# Altium footprint library Common-Parts-Library.PcbLib: 530 footprints (part 33 of 34)
Each footprint in its own frame and in the unit in brackets; x right, y up, seen from the top. Pads: shape width x height; smd on the part's side, far side on the other; paste and mask are expansions set on the pad; w line width, h text height; cw(c..) or ccw(c..) is an arc to the next point about the centre after c.
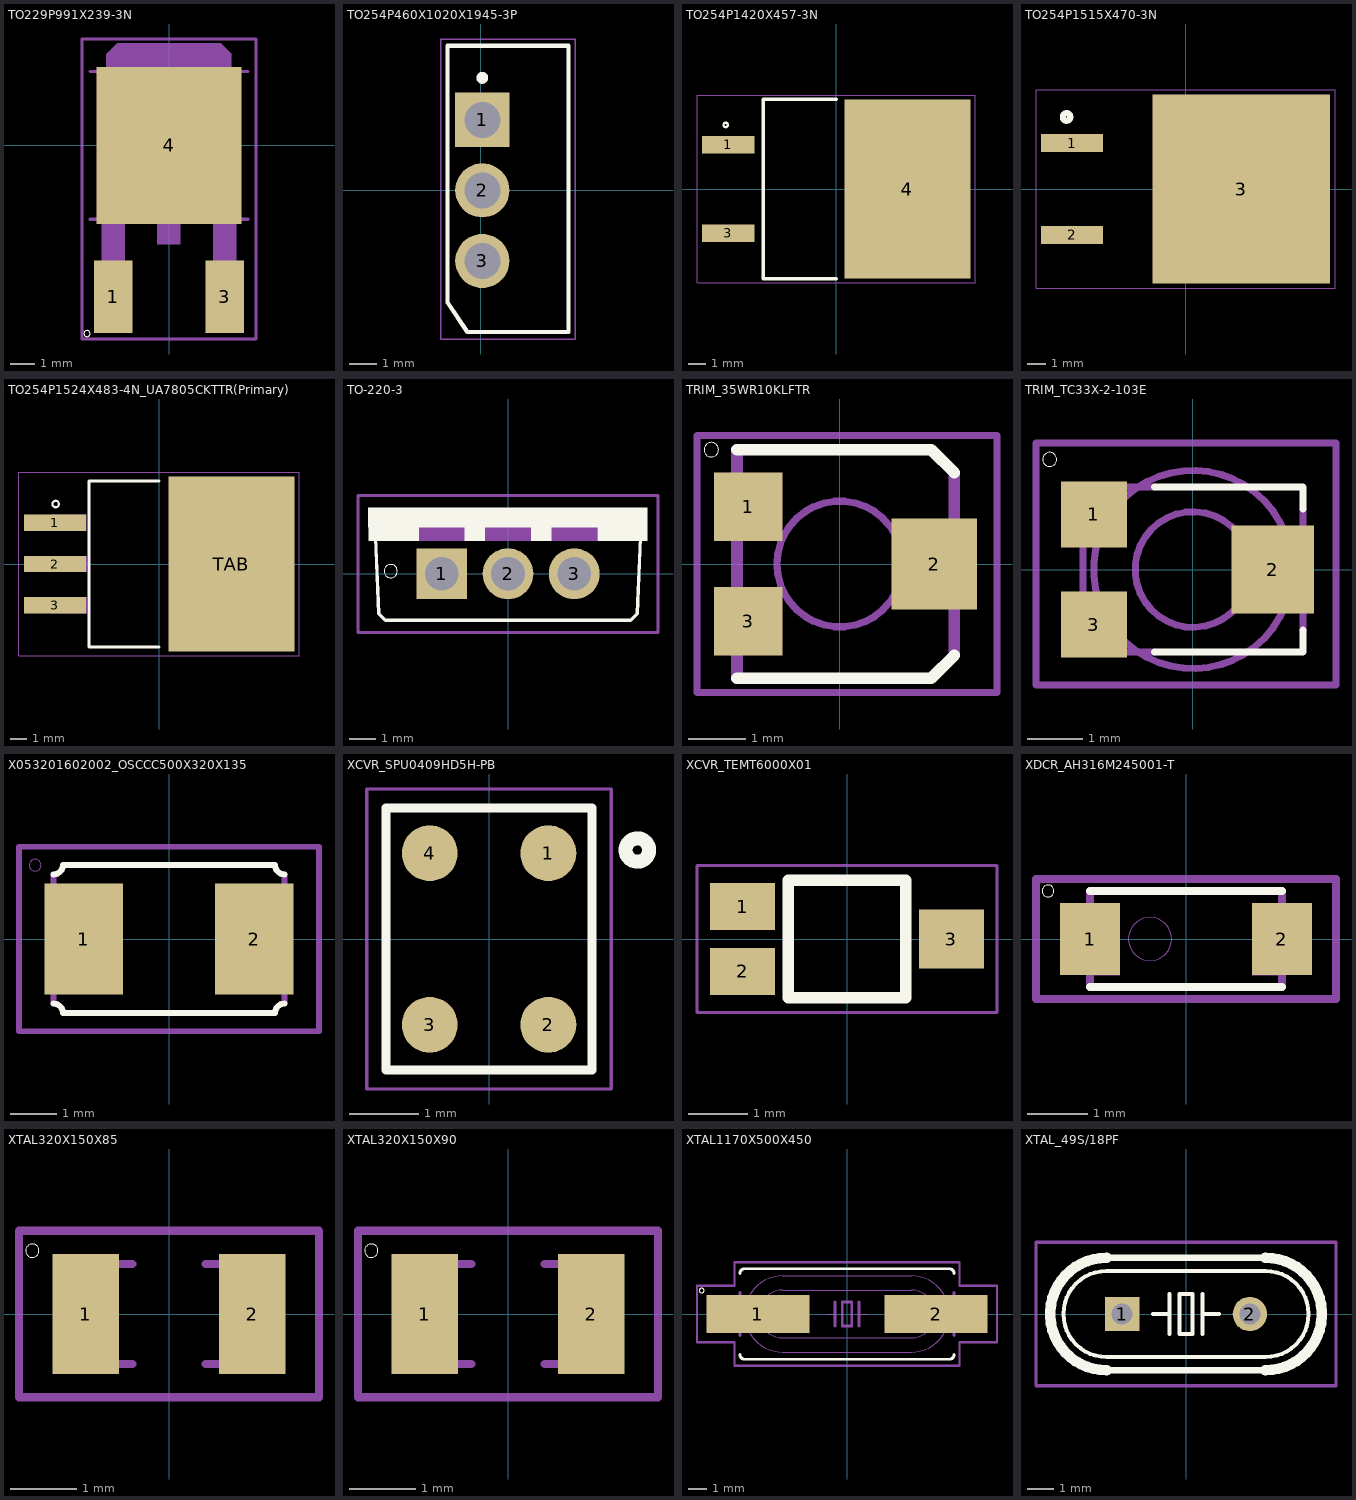
[diagram p32: the footprints below, top view; thin cyan lines are the x and y axes]

## TO229P991X239-3N [mm]
pads (3):
  rect 1.6x3 smd: 1(-2.3,-6.25) 3(2.3,-6.25)
  rect 6x6.5 smd: 4(0,0)
Top Overlay:
  circle w0: c-3.389,-7.775 r0.127
Mechanical 1:
  region: -2.565,3.05 -2.565,3.761 -2.108,4.218 2.108,4.218 2.565,3.761 2.565,3.05
  region: -0.475,-3.05 0.475,-3.05 0.475,-4.074 -0.475,-4.074
  region: 1.83,-3.05 2.775,-3.05 2.775,-5.965 1.83,-5.965
  region: -2.779,-3.05 -1.825,-3.05 -1.825,-5.958 -2.779,-5.958
  lines w0: -2.565,3.05 2.565,3.05 2.565,3.761 2.108,4.218 -2.108,4.218 -2.565,3.761 -2.565,3.05
  lines w0.127: -3.27,-3.05 3.27,-3.05 ; -3.27,3.05 3.27,3.05 ; -3.6,-8 3.6,-8 3.6,4.4 -3.6,4.4 -3.6,-8

## TO254P460X1020X1945-3P [mm]
pads (3):
  rect 1.95x1.95 hole 1.3: 1(0.051,2.54)
  round 1.95 hole 1.3: 2(0.051,0) 3(0.051,-2.54)
Top Overlay:
  circle w0.2: c0.05,4.05 r0.112
  lines w0.152: -1.2,-4.039 -1.2,5.207 3.15,5.207 3.15,-5.1 -0.483,-5.1 -1.2,-4.039
Mechanical 1:
  lines w0.05: -1.45,-5.35 -1.45,5.45 3.4,5.45 3.4,-5.35 -1.45,-5.35

## TO254P1420X457-3N [mm]
pads (3):
  rect 3x1 smd: 1(-6.2,2.54) 3(-6.2,-2.54)
  rect 7.25x10.3 smd: 4(4.1,0)
Top Overlay:
  circle w0.127: c-6.35,3.683 r0.127
  lines w0.203: 0,-5.15 -4.2,-5.15 -4.2,5.15 0,5.15
Mechanical 1:
  lines w0.05: -8,-5.4 -8,5.4 8,5.4 8,-5.4 -8,-5.4

## TO254P1515X470-3N [mm]
pads (3):
  rect 3.45x1 smd: 1(-6.3,2.54) 2(-6.3,-2.54)
  rect 9.85x10.5 smd: 3(3.1,0)
Top Overlay:
  circle w0.2: c-6.6,4 r0.141
  circle w0.2: c-6.6,4 r0.283
Top Paste:
  region: 5.753,-3.24 7.1,-3.24 7.1,-4.771 5.753,-4.771
  region: 3.621,-3.24 4.98,-3.24 4.98,-4.762 3.621,-4.762
  region: 1.473,-3.24 2.83,-3.24 2.83,-4.768 1.473,-4.768
  region: -0.681,-3.24 0.68,-3.24 0.68,-4.765 -0.681,-4.765
  region: 5.749,-1.24 7.1,-1.24 7.1,-2.764 5.749,-2.764
  region: 3.627,-1.24 4.98,-1.24 4.98,-2.766 3.627,-2.766
  region: 1.473,-1.24 2.83,-1.24 2.83,-2.766 1.473,-2.766
  region: -0.682,-1.24 0.68,-1.24 0.68,-2.767 -0.682,-2.767
  region: 5.746,0.76 7.1,0.76 7.1,-0.761 5.746,-0.761
  region: 3.629,0.76 4.98,0.76 4.98,-0.762 3.629,-0.762
  region: 1.475,0.76 2.83,0.76 2.83,-0.763 1.475,-0.763
  region: -0.681,0.76 0.68,0.76 0.68,-0.762 -0.681,-0.762
  region: 5.761,2.76 7.1,2.76 7.1,1.245 5.761,1.245
  region: 3.629,2.76 4.98,2.76 4.98,1.243 3.629,1.243
  region: 1.473,2.76 2.83,2.76 2.83,1.243 1.473,1.243
  region: -0.682,2.76 0.68,2.76 0.68,1.244 -0.682,1.244
  region: 5.749,4.76 7.1,4.76 7.1,3.245 5.749,3.245
  region: 3.629,4.76 4.98,4.76 4.98,3.248 3.629,3.248
  region: 1.473,4.76 2.83,4.76 2.83,3.247 1.473,3.247
  region: -0.681,4.76 0.68,4.76 0.68,3.246 -0.681,3.246
Mechanical 1:
  lines w0.05: -8.3,-5.5 -8.3,5.5 8.3,5.5 8.3,-5.5 -8.3,-5.5

## TO254P1524X483-4N_UA7805CKTTR(Primary) [mm]
pads (4):
  rect 3.8x1 smd: 1(-6.4,2.54) 2(-6.4,0) 3(-6.4,-2.54)
  rect 7.75x10.75 smd: TAB(4.45,0)
Top Overlay:
  circle w0.127: c-6.35,3.683 r0.2
  lines w0.2: -4.3,-5.1 0,-5.1 ; -4.3,5.1 0,5.1
  lines w0.203: -4.3,-5.1 -4.3,5.1
Top Paste:
  region: 1.153,-3.45 2.65,-3.45 2.65,-4.965 1.153,-4.965
  region: 1.153,-1.35 2.65,-1.35 2.65,-2.857 1.153,-2.857
  region: 1.153,0.75 2.65,0.75 2.65,-0.752 1.153,-0.752
  region: 1.152,2.85 2.65,2.85 2.65,1.353 1.152,1.353
  region: 3.656,-3.45 5.15,-3.45 5.15,-4.959 3.656,-4.959
  region: 3.662,-1.35 5.15,-1.35 5.15,-2.859 3.662,-2.859
  region: 3.657,0.75 5.15,0.75 5.15,-0.751 3.657,-0.751
  region: 3.655,2.85 5.15,2.85 5.15,1.352 3.655,1.352
  region: 6.169,-3.45 7.65,-3.45 7.65,-4.965 6.169,-4.965
  region: 6.159,-1.35 7.65,-1.35 7.65,-2.854 6.159,-2.854
  region: 6.167,0.75 7.65,0.75 7.65,-0.752 6.167,-0.752
  region: 6.155,2.85 7.65,2.85 7.65,1.351 6.155,1.351
  region: 6.152,4.95 7.65,4.95 7.65,3.451 6.152,3.451
  region: 3.653,4.95 5.15,4.95 5.15,3.452 3.653,3.452
  region: 1.152,4.95 2.65,4.95 2.65,3.455 1.152,3.455
Mechanical 1:
  region: -4.448,-2.054 -4.448,-3.034 -6.616,-3.034 -6.616,-2.054
  region: -4.457,3.034 -4.457,2.05 -6.611,2.05 -6.611,3.034
  region: -4.449,0.487 -4.449,-0.489 -6.61,-0.489 -6.61,0.487
  lines w0.05: -8.6,-5.65 -8.6,5.65 8.6,5.65 8.6,-5.65 -8.6,-5.65

## TO-220-3 [mm]
pads (3):
  rect 1.95x1.95 hole 1.3: 1(-2.54,0)
  round 1.95 hole 1.3: 2(0,0) 3(2.54,0)
Top Overlay:
  circle w0: c-4.496,0.102 r0.254
  region: 3.434,1.778 5.334,1.778 5.334,1.272 3.434,1.272
  region: 0.89,1.778 1.651,1.778 1.651,1.272 0.89,1.272
  region: -1.654,1.778 -0.889,1.778 -0.889,1.273 -1.654,1.273
  region: -5.346,1.778 -3.429,1.778 -3.429,1.273 -5.346,1.273
  region: -5.352,2.54 5.334,2.54 5.334,1.784 -5.352,1.784
  lines w0.127: -5.08,1.397 -4.953,-1.524 -4.699,-1.778 4.699,-1.778 4.953,-1.524 5.08,1.397
Mechanical 1:
  region: 1.656,1.778 3.429,1.778 3.429,1.274 1.656,1.274
  region: -0.89,1.778 0.889,1.778 0.889,1.272 -0.89,1.272
  region: -3.433,1.778 -1.651,1.778 -1.651,1.271 -3.433,1.271
  lines w0.127: -5.75,-2.25 -5.75,3 5.75,3 5.75,-2.25 -5.75,-2.25

## TRIM_35WR10KLFTR [mm]
pads (3):
  rect 1.2x1.2 smd: 1(-1.6,1) 3(-1.6,-1)
  rect 1.5x1.6 smd: 2(1.65,0)
Top Overlay:
  circle w0: c-2.25,2 r0.127
  lines w0.203: -1.8,-2 1.6,-2 2,-1.6 ; -1.8,2 1.6,2 2,1.6
Mechanical 1:
  circle w0.127: c0,0 r1.1
  lines w0.127: -2.5,-2.25 -2.5,2.25 2.75,2.25 2.75,-2.25 -2.5,-2.25
  lines w0.203: -1.8,-2 -1.8,2 ; 2,-1.6 2,1.6

## TRIM_TC33X-2-103E [mm]
pads (3):
  rect 1.2x1.2 smd: 1(-1.8,1) 3(-1.8,-1)
  rect 1.5x1.6 smd: 2(1.45,0)
Top Overlay:
  circle w0: c-2.6,2 r0.127
  lines w0.127: -0.7,-1.5 2,-1.5 2,-1.1 ; -0.7,1.5 2,1.5 2,1.1
Mechanical 1:
  circle w0.127: c0,0 r1.05
  circle w0.127: c0,0 r1.8
  lines w0.127: -0.7,-1.5 -2,-1.5 -2,1.5 -0.7,1.5 ; 2,-1.1 2,1.1 ; -2.85,-2.1 2.6,-2.1 2.6,2.3 -2.85,2.3 -2.85,-2.1

## X053201602002_OSCCC500X320X135 [mm]
pads (2):
  rect 1.7x2.4 smd: 1(-1.85,0) 2(1.85,0)
Top Overlay:
  lines w0.127: -2.5,-1.4 cw(c-2.5,-1.6) -2.3,-1.6 2.3,-1.6 cw(c2.5,-1.6) 2.5,-1.4 ; -2.5,1.4 ccw(c-2.5,1.6) -2.3,1.6 2.3,1.6 ccw(c2.5,1.6) 2.5,1.4
Mechanical 1:
  circle w0: c-2.9,1.6 r0.127
  lines w0.127: -2.5,-1.4 -2.5,1.4 ; 2.5,-1.4 2.5,1.4 ; -3.25,-2 -3.25,2 3.25,2 3.25,-2 -3.25,-2

## XCVR_SPU0409HD5H-PB [mm]
pads (4):
  round 0.8 smd: 1(0.85,1.23) 2(0.85,-1.23) 3(-0.85,-1.23) 4(-0.85,1.23)
Top Overlay:
  circle w0.2: c2.125,1.275 r0.168
  lines w0.127: -1.475,-1.88 -1.475,1.88 1.475,1.88 1.475,-1.88 -1.475,-1.88
Mechanical 1:
  lines w0.05: -1.75,-2.15 -1.75,2.15 1.75,2.15 1.75,-2.15 -1.75,-2.15

## XCVR_TEMT6000X01 [mm]
pads (3):
  rect 1.1x0.8 smd: 1(-1.775,0.55) 2(-1.775,-0.55)
  rect 1.1x1 smd: 3(1.775,0)
Top Overlay:
  lines w0.2: -1,-1 -1,1 1,1 1,-1 -1,-1
Mechanical 1:
  lines w0.05: -2.55,-1.25 -2.55,1.25 2.55,1.25 2.55,-1.25 -2.55,-1.25

## XDCR_AH316M245001-T [mm]
pads (2):
  rect 1x1.2 smd: 1(-1.6,0) 2(1.6,0)
Top Overlay:
  circle w0: c-2.3,0.8 r0.1
  lines w0.127: -1.6,-0.8 1.6,-0.8 ; -1.6,0.8 1.6,0.8
Mechanical 1:
  circle w0: c-0.6,0 r0.361
  region: 1.101,0.6 1.6,0.6 1.6,-0.601 1.101,-0.601
  region: -1.602,0.6 -1.1,0.6 -1.1,-0.601 -1.602,-0.601
  lines w0.127: -1.6,-0.8 -1.6,0.8 ; 1.6,-0.8 1.6,0.8 ; -2.5,-1 -2.5,1 2.5,1 2.5,-1 -2.5,-1

## XTAL320X150X85 [mm]
pads (2):
  rect 1x1.8 smd: 1(-1.25,0) 2(1.25,0)
Top Overlay:
  circle w0: c-2.05,0.95 r0.1
Mechanical 1:
  lines w0.127: -0.55,-0.75 -1.6,-0.75 -1.6,0.75 -0.55,0.75 ; 0.55,-0.75 1.6,-0.75 1.6,0.75 0.55,0.75 ; -2.25,-1.25 2.25,-1.25 2.25,1.25 -2.25,1.25 -2.25,-1.25

## XTAL320X150X90 [mm]
pads (2):
  rect 1x1.8 smd: 1(-1.25,0) 2(1.25,0)
Top Overlay:
  circle w0: c-2.05,0.95 r0.1
Mechanical 1:
  lines w0.127: -0.55,-0.75 -1.6,-0.75 -1.6,0.75 -0.55,0.75 ; 0.55,-0.75 1.6,-0.75 1.6,0.75 0.55,0.75 ; -2.25,-1.25 2.25,-1.25 2.25,1.25 -2.25,1.25 -2.25,-1.25

## XTAL1170X500X450 [mm]
pads (2):
  rect 5.5x2 smd: 1(-4.75,0) 2(4.75,0)
Top Overlay:
  circle w0: c-7.75,1.25 r0.127
  lines w0.152: -5.715,-2.159 ccw(c-5.461,-2.159) -5.461,-2.413 5.461,-2.413 ccw(c5.461,-2.159) 5.715,-2.159 ; -5.715,2.159 cw(c-5.461,2.159) -5.461,2.413 5.461,2.413 cw(c5.461,2.159) 5.715,2.159
Mechanical 1:
  lines w0.051: -5.114,-1.136 ccw(c-3.429,0) -3.429,-2.032 3.429,-2.032 ccw(c3.429,0) 5.113,-1.136 ccw(c3.429,0) 5.114,1.136 ; -5.114,-1.136 cw(c-3.429,0) -5.114,1.136 cw(c-3.429,0) -3.429,2.032 3.429,2.032 cw(c3.429,0) 5.114,1.136 ; -1.143,0 -0.635,0 ; 0.635,0 1.143,0 ; -3.986,-1.141 cw(c-3.429,0) -3.986,1.141 cw(c-3.429,0) -3.429,1.27 3.429,1.27 cw(c3.429,0) 3.986,1.141 cw(c3.429,0) 3.986,-1.141 cw(c3.429,0) 3.429,-1.27 -3.429,-1.27 cw(c-3.429,0) -3.986,-1.141
  lines w0.127: -8,-1.5 -6,-1.5 -6,-2.75 6,-2.75 6,-1.5 8,-1.5 8,1.5 6,1.5 6,2.75 -6,2.75 -6,1.5 -8,1.5 -8,-1.5
  lines w0.152: -5.715,-1.143 -5.715,1.143 ; -5.715,-0.381 -6.477,-0.381 -6.477,0.381 -5.715,0.381 ; -0.635,-0.635 -0.635,0 -0.635,0.635 ; 0.635,-0.635 0.635,0 0.635,0.635 ; 5.715,-1.143 5.715,-0.381 ; 5.715,1.143 5.715,0.381 ; 5.715,-0.381 6.477,-0.381 6.477,0.381 5.715,0.381 ; 5.715,-0.381 5.715,0.381 ; -0.254,-0.635 0.254,-0.635 0.254,0.635 -0.254,0.635 -0.254,-0.635

## XTAL_49S/18PF [mil]
pads (2):
  rect 52x52 hole 32: 1(-96.46,0)
  round 52 hole 32: 2(96.46,0)
Top Overlay:
  lines w6: -50,0 -25,0 ; -25,-30 -25,0 ; -25,30 -25,0 ; 25,-30 25,0 ; 25,30 25,0 ; 50,0 25,0 ; -120,-65 cw(c-120,0) -120,65 120,65 cw(c120,0) 120,-65 -120,-65 ; -10,-30 -10,30 10,30 10,-30 -10,-30
  lines w10: -120,-85 120,-85 ; -120,85 120,85
  lines w16: -120,-85 cw(c-120,0) -120,85 ; 120,-85 ccw(c120,0) 120,85
Mechanical 1:
  lines w5: -226.38,-108.27 -226.38,108.27 226.38,108.27 226.38,-108.27 -226.38,-108.27